# Altium footprint library Bicycle_project.PcbLib: 15 footprints
Each footprint in its own frame and in the unit in brackets; x right, y up, seen from the top. Pads: shape width x height; smd on the part's side, far side on the other; paste and mask are expansions set on the pad; w line width, h text height; cw(c..) or ccw(c..) is an arc to the next point about the centre after c.
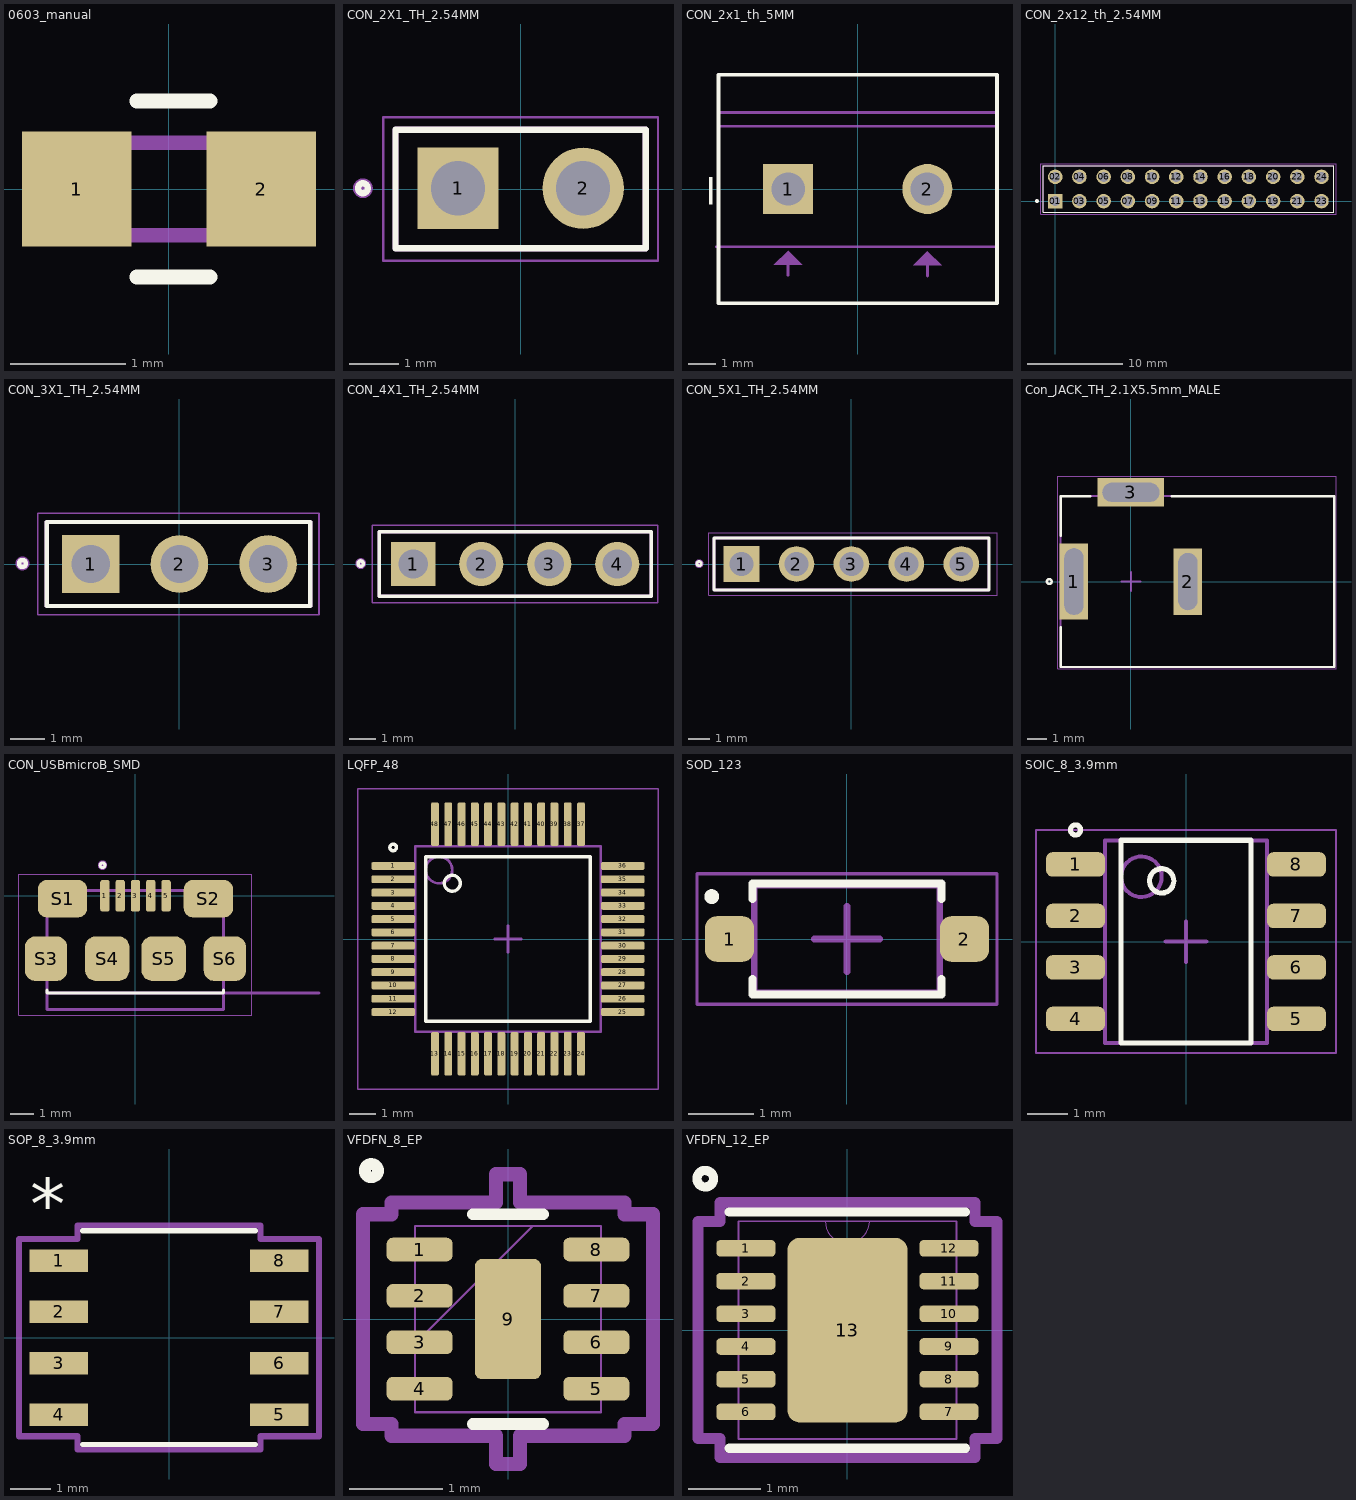
[diagram p0: the footprints below, top view; thin cyan lines are the x and y axes]

## 0603_manual [mm] "1608 (metric) / 20231125 / Gustavo_Pisso"
pads (2):
  rect 0.95x1 smd: 1(-0.8,0) 2(0.8,0)
Top Overlay:
  lines w0.127: -0.279,-0.762 0.356,-0.762 ; -0.279,0.762 -0.121,0.762 0.197,0.762 0.356,0.762
Mechanical 1:
  lines w0.127: -0.851,-0.4 -0.851,0.4 0.749,0.4 0.749,-0.4 -0.851,-0.4
3D body "RC0603N_PAN.step": height 0.71, standoff 0, extent -0.851,-0.4 0.749,0.4

## CON_2X1_TH_2.54MM [mm]
height 8.58
pads (2):
  rect 1.65x1.65 / inner round 1.65 / far side rect 1.65x1.65 hole 1.1: 1(-1.27,0.015)
  round 1.65 hole 1.1: 2(1.27,0.015)
Top Overlay:
  circle w0.127: c-3.2,0.015 r0.1
  lines w0.127: -2.54,-1.205 2.54,-1.205 2.54,1.205 -2.54,1.205 -2.54,-1.205
Mechanical 13:
  circle w0.2: c-3.2,0.015 r0.1
  lines w0.127: -2.54,-1.205 2.54,-1.205 2.54,1.205 -2.54,1.205 -2.54,-1.205
Mechanical 15:
  lines w0.05: -2.79,-1.455 2.79,-1.455 2.79,1.455 -2.79,1.455 -2.79,-1.455
3D body "step_temp.STEP": height 8.18, standoff -3.25, extent -2.54,-1.267 2.54,1.143

## CON_2x1_th_5MM [mm]
height 10
pads (2):
  rect 1.8x1.8 hole 1.2: 1(-2.5,0)
  round 1.8 hole 1.2: 2(2.5,0)
Top Overlay:
  region: -5.336,0.436 -5.336,-0.564 -5.209,-0.564 -5.209,0.436
  lines w0.127: -5,-4.1 -5,4.1 5,4.1 5,-4.1 -5,-4.1
Mechanical 1:
  region: 1.995,-2.742 3.011,-2.742 2.503,-2.234
  region: -3.011,-2.717 -1.995,-2.717 -2.503,-2.209
  lines w0.1: -5.075,-2.075 4.925,-2.075 ; -5,2.25 5,2.25 ; -4.95,2.75 5,2.75 ; -2.503,-3.098 -2.503,-2.717 ; 2.503,-3.123 2.503,-2.742 ; -5,-4.1 -5,4.1 5,4.1 5,-4.1 -5,-4.1
3D body "282836-2.stp": height 10.04, standoff -3.46, extent -5.525,-4.1 5.075,4.1

## CON_2x12_th_2.54MM [mm]
height 10
pads (24):
  rect 1.53x1.53 hole 1.02: 01(0,0)
  round 1.53 hole 1.02: 02(0,2.54) 03(2.54,0) 04(2.54,2.54) 05(5.08,0) 06(5.08,2.54) 07(7.62,0) 08(7.62,2.54) 09(10.16,0) 10(10.16,2.54) 11(12.7,0) 12(12.7,2.54) 13(15.24,0) 14(15.24,2.54) 15(17.78,0) 16(17.78,2.54) 17(20.32,0) 18(20.32,2.54) 19(22.86,0) 20(22.86,2.54) 21(25.4,0) 22(25.4,2.54) 23(27.94,0) 24(27.94,2.54)
Top Overlay:
  circle w0.2: c-1.92,0 r0.1
  lines w0.127: -1.27,-1.145 -1.27,3.685 29.21,3.685 29.21,-1.145 -1.27,-1.145
Mechanical 13:
  circle w0.2: c-1.92,0 r0.1
  lines w0.127: -1.27,-1.145 -1.27,3.685 ; -1.27,-1.145 29.21,-1.145 ; -1.27,-1.145 -1.27,3.685 ; -1.27,3.685 29.21,3.685 ; -1.27,3.685 29.21,3.685 ; 29.21,-1.145 29.21,3.685 ; 29.21,-1.145 29.21,3.685
Mechanical 15:
  lines w0.05: -1.52,-1.395 -1.52,3.935 29.46,3.935 29.46,-1.395 -1.52,-1.395
3D body "step_temp.STEP": height 8.18, standoff -3.25, extent -1.27,-1.145 29.21,3.685

## CON_3X1_TH_2.54MM [mm]
pads (3):
  rect 1.65x1.65 / inner round 1.65 / far side rect 1.65x1.65 hole 1.1: 1(-2.54,0)
  round 1.65 hole 1.1: 2(0,0) 3(2.54,0)
Top Overlay:
  circle w0.127: c-4.5,0.015 r0.1
  lines w0.127: -3.81,-1.205 3.75,-1.205 3.75,1.205 -3.81,1.205 -3.81,-1.205
Mechanical 13:
  circle w0.2: c-4.5,0.015 r0.1
  lines w0.127: -3.81,-1.205 3.75,-1.205 3.75,1.205 -3.81,1.205 -3.81,-1.205
Mechanical 15:
  lines w0.05: -4.06,-1.455 4,-1.455 4,1.455 -4.06,1.455 -4.06,-1.455
3D body "10129378-903001BLF.step": height 8.18, standoff -3.25, extent -3.81,-1.25 3.81,1.16

## CON_4X1_TH_2.54MM [mm]
height 8.58
pads (4):
  rect 1.65x1.65 / inner round 1.65 / far side rect 1.65x1.65 hole 1.1: 1(-3.81,0)
  round 1.65 hole 1.1: 2(-1.27,0) 3(1.27,0) 4(3.81,0)
Top Overlay:
  circle w0.127: c-5.77,0.015 r0.1
  lines w0.127: -5.08,-1.205 5.08,-1.205 5.08,1.205 -5.08,1.205 -5.08,-1.205
Mechanical 13:
  circle w0.2: c-5.77,0.015 r0.1
  lines w0.127: -5.08,-1.205 5.08,-1.205 5.08,1.205 -5.08,1.205 -5.08,-1.205
Mechanical 15:
  lines w0.05: -5.33,-1.455 5.33,-1.455 5.33,1.455 -5.33,1.455 -5.33,-1.455
3D body "step_temp.STEP": height 8.18, standoff -3.25, extent -5.08,-1.205 5.08,1.205

## CON_5X1_TH_2.54MM [mm]
height 8.58
pads (5):
  rect 1.65x1.65 / inner round 1.65 / far side rect 1.65x1.65 hole 1.1: 1(-5.08,0)
  round 1.65 hole 1.1: 2(-2.54,0) 3(0,0) 4(2.54,0) 5(5.08,0)
Top Overlay:
  circle w0.127: c-7.04,0.015 r0.1
  lines w0.127: -6.35,-1.205 -6.35,1.205 6.355,1.205 6.355,-1.205 -6.35,-1.205
Mechanical 13:
  circle w0.2: c-7.04,0.015 r0.1
  lines w0.127: -6.35,-1.205 -6.35,1.205 6.35,1.205 6.35,-1.205 -6.35,-1.205
Mechanical 15:
  lines w0.05: -6.6,-1.455 -6.6,1.455 6.73,1.455 6.73,-1.455 -6.6,-1.455
3D body "10129378-905001BLF.STEP": height 8.18, standoff -3.25, extent -6.35,-1.205 6.35,1.205

## Con_JACK_TH_2.1X5.5mm_MALE [mm] "20231203 / GustavoPisso"
height 11
pads (3):
  rect 1.5x4 hole 1 slot 3.5 at 90 deg: 1(-3,0)
  rect 1.5x3.5 hole 1 slot 3 at 90 deg: 2(3,0)
  rect 3.5x1.5 hole 1 slot 3 at 0 deg: 3(0,4.7)
Top Overlay:
  circle w0.127: c-4.3,0 r0.125
  lines w0.127: -3.7,-2.4 -3.7,-4.5 10.7,-4.5 10.7,4.5 2.15,4.5 ; -3.7,2.4 -3.7,4.5 -2.15,4.5
Mechanical 1:
  lines w0.1: -3.7,-4.5 -3.7,4.5 10.7,4.5 10.7,-4.5 -3.7,-4.5
Mechanical 15:
  lines w0.05: -3.85,-4.6 -3.85,5.55 10.8,5.55 10.8,-4.6 -3.85,-4.6
  lines w0.1: -0.5,0 0.5,0 ; 0,-0.5 0,0.5
3D body "pj-002a.stp": height 11, standoff -3.5, extent -3.7,-4.5 10.7,4.9

## CON_USBmicroB_SMD [mm] "20231212 / GustavoPisso"
height 2.8
pads (11):
  rrect50% 0.4x1.35 smd: 1(-1.3,0) 2(-0.65,0) 3(0,0) 4(0.65,0) 5(1.3,0)
  rrect50% 2.1x1.6 smd: S1(-3.1,-0.125) S2(3.1,-0.125)
  rrect50% 1.8x1.9 smd: S3(-3.8,-2.675) S6(3.8,-2.675)
  rrect50% 1.9x1.9 smd: S4(-1.2,-2.675) S5(1.2,-2.675)
Top Overlay:
  circle w0.127: c-1.4,1.3 r0.1
  lines w0.127: -3.75,-4 -3.75,-4.125 3.75,-4.125 3.75,-4
Mechanical 1:
  circle w0.2: c-1.4,1.3 r0.1
  lines w0.127: 7.8,-4.125 3.75,-4.125 ; -3.75,-4.125 3.75,-4.125 ; -3.75,-4.125 -3.75,0.225 3.75,0.225 3.75,-4.125 ; -3.75,-4.125 -3.75,-4.825 3.75,-4.825 3.75,-4.125
  text "PCB Edge" at 5.1,-3.8 h0.41
Mechanical 15:
  lines w0.05: -4.95,-5.075 -4.95,0.925 4.95,0.925 4.95,-5.075 -4.95,-5.075
3D body "step_temp.STEP": height 2.7, standoff 0, extent -3.95,-4.825 3.95,0.275

## LQFP_48 [mm] "LQFP_48 (7x7) / 20231215 / GustavoPisso"
height 1.6
pads (48):
  rrect50% 1.65x0.3 smd: 1(-4.325,2.75) 2(-4.325,2.25) 3(-4.325,1.75) 4(-4.325,1.25) 5(-4.325,0.75) 6(-4.325,0.25) 7(-4.325,-0.25) 8(-4.325,-0.75) 9(-4.325,-1.25) 10(-4.325,-1.75) 11(-4.325,-2.25) 12(-4.325,-2.75) 25(4.325,-2.75) 26(4.325,-2.25) 27(4.325,-1.75) 28(4.325,-1.25) 29(4.325,-0.75) 30(4.325,-0.25) 31(4.325,0.25) 32(4.325,0.75) 33(4.325,1.25) 34(4.325,1.75) 35(4.325,2.25) 36(4.325,2.75)
  rrect50% 0.3x1.65 smd: 13(-2.75,-4.325) 14(-2.25,-4.325) 15(-1.75,-4.325) 16(-1.25,-4.325) 17(-0.75,-4.325) 18(-0.25,-4.325) 19(0.25,-4.325) 20(0.75,-4.325) 21(1.25,-4.325) 22(1.75,-4.325) 23(2.25,-4.325) 24(2.75,-4.325) 37(2.75,4.325) 38(2.25,4.325) 39(1.75,4.325) 40(1.25,4.325) 41(0.75,4.325) 42(0.25,4.325) 43(-0.25,4.325) 44(-0.75,4.325) 45(-1.25,4.325) 46(-1.75,4.325) 47(-2.25,4.325) 48(-2.75,4.325)
Top Overlay:
  circle w0.127: c-4.325,3.45 r0.125
  circle w0.127: c-2.1,2.1 r0.3
  lines w0.127: -3.1,-3.1 -3.1,3.1 3.1,3.1 3.1,-3.1 -3.1,-3.1
Mechanical 1:
  circle w0.1: c-2.6,2.6 r0.5
  lines w0.1: -3.5,-3.5 -3.5,3.5 3.5,3.5 3.5,-3.5 -3.5,-3.5
Mechanical 15:
  lines w0.05: -5.65,-5.65 -5.65,5.65 5.65,5.65 5.65,-5.65 -5.65,-5.65
  lines w0.1: -0.5,0 0.5,0 ; 0,-0.5 0,0.5
3D body: height 1.6, standoff 0.05, extent -3.5,-3.5 3.5,3.5

## SOD_123 [mm] "SOD-123 / 20231125 / GustavoPisso"
height 1.35
pads (2):
  rrect50% 0.75x0.7 smd: 1(-1.8,0) 2(1.8,0)
Top Overlay:
  circle w0.127: c-2.075,0.65 r0.05
  lines w0.127: -1.45,-0.613 -1.45,-0.85 1.45,-0.85 1.45,-0.613 ; -1.45,0.613 -1.45,0.85 1.45,0.85 1.45,0.613
Mechanical 1:
  lines w0.1: -1.425,-0.825 1.425,-0.825 1.425,0.825 -1.425,0.825 -1.425,-0.825
Mechanical 15:
  lines w0.05: -2.3,-1 2.3,-1 2.3,1 -2.3,1 -2.3,-1
  lines w0.1: -0.5,0 0.5,0 ; 0,-0.5 0,0.5
3D body "SODFL370X135-2N.step": height 1.35, standoff 0, extent -1.85,-0.825 1.85,0.825

## SOIC_8_3.9mm [mm] "SOIC-8 / 20231125 / GustavoPisso"
height 1.75
pads (8):
  rrect50% 1.45x0.6 smd: 1(-2.725,1.905) 2(-2.725,0.635) 3(-2.725,-0.635) 4(-2.725,-1.905) 5(2.725,-1.905) 6(2.725,-0.635) 7(2.725,0.635) 8(2.725,1.905)
Top Overlay:
  circle w0.127: c-2.725,2.755 r0.125
  circle w0.127: c-0.6,1.5 r0.3
  lines w0.127: -1.6,-2.5 -1.6,2.5 1.6,2.5 1.6,-2.5 -1.6,-2.5
Mechanical 1:
  circle w0.1: c-1.1,1.6 r0.5
  lines w0.1: -2,-2.5 -2,2.5 2,2.5 2,-2.5 -2,-2.5
Mechanical 15:
  lines w0.05: -3.7,-2.75 -3.7,2.75 3.7,2.75 3.7,-2.75 -3.7,-2.75
  lines w0.1: -0.5,0 0.5,0 ; 0,-0.5 0,0.5
3D body "SOIC-8akaD0008AakaM08A.stp": height 1.63, standoff 0, extent -3,-2.45 3,2.45

## SOP_8_3.9mm [mil] "8-SOIC (0.154\", 3.90mm Width)"
pads (8):
  rect 57x22 smd paste+0 mask+0: 1(-107.5,75) 2(-107.5,25) 3(-107.5,-25) 4(-107.5,-75) 5(107.5,-75) 6(107.5,-25) 7(107.5,25) 8(107.5,75)
Top Overlay:
  lines w5: -84,-104 84,-104 ; -84,104 84,104
  text "*" at -135,105 h50
Mechanical 15:
  lines w6: -146,-96 -146,96 -89,96 -89,109 89,109 89,96 146,96 146,-96 89,-96 89,-109 -89,-109 -89,-96 -146,-96
3D body "8-SOP_MX25V_M1_MAC.step": height 69.09, standoff 0, extent -122.01,-99.02 122.01,99.02

## VFDFN_8_EP [mil] "MLF8 (2X2) / 20231203 / GustavoPisso"
pads (9):
  rrect50% 28x10 smd: 1(-37.5,29.53) 2(-37.5,9.84) 3(-37.5,-9.84) 4(-37.5,-29.53) 5(37.5,-29.53) 6(37.5,-9.84) 7(37.5,9.84) 8(37.5,29.53)
  rrect20% 28x51 smd: 9(0,0)
Top Overlay:
  circle w5: c-58,63 r2.83
  lines w5: -15.01,-44.5 15.01,-44.5 ; -15.01,44.5 15.01,44.5
Mechanical 1:
  lines w1: -39.5,-10.5 10.5,39.5 ; -39.5,-39.5 39.5,-39.5 39.5,39.5 -39.5,39.5 -39.5,-39.5 ; -39.5,-35.53 -39.5,-23.53 -39.5,-35.53 ; -39.5,-15.84 -39.5,-3.84 -39.5,-15.84 ; -39.5,3.84 -39.5,15.84 -39.5,3.84 ; -39.5,23.53 -39.5,35.53 -39.5,23.53 ; 39.5,-35.53 39.5,-23.53 39.5,-35.53 ; 39.5,-15.84 39.5,-3.84 39.5,-15.84 ; 39.5,3.84 39.5,15.84 39.5,3.84 ; 39.5,23.53 39.5,35.53 39.5,23.53
Mechanical 15:
  lines w6: -61.5,-44.53 -49.5,-44.53 -49.5,-49.5 -5.16,-49.5 -5.16,-61.5 5.16,-61.5 5.16,-49.5 49.5,-49.5 49.5,-44.53 61.5,-44.53 61.5,44.53 49.5,44.53 49.5,49.5 5.16,49.5 5.16,61.5 -5.16,61.5 -5.16,49.5 -49.5,49.5 -49.5,44.53 -61.5,44.53 -61.5,-44.53
3D body "MLF-8_ML_MCH.step": height 35.12, standoff 0, extent -39.49,-39.49 39.49,39.49

## VFDFN_12_EP [mil] "DFN_12_(3X3) / 20231212 / GustavoPisso"
pads (13):
  rrect50% 32x9 smd paste+0 mask+0: 1(-55,44.29) 2(-55,26.57) 3(-55,8.86) 4(-55,-8.86) 5(-55,-26.57) 6(-55,-44.29) 7(55,-44.29) 8(55,-26.57) 9(55,-8.86) 10(55,8.86) 11(55,26.57) 12(55,44.29)
  rrect20% 65x100 smd paste+0 mask+0: 13(0,0)
Top Overlay:
  circle w5: c-77,82 r4.47
  lines w5: -64,-64 64,-64 ; -64,64 64,64
Mechanical 1:
  lines w0: -12,59 ccw(c0,59) 12,59
  lines w1: -59,-59 -59,59 59,59 59,-59 -59,-59
Mechanical 15:
  lines w6: -81,-58.79 -69,-58.79 -69,-69 69,-69 69,-58.79 81,-58.79 81,58.79 69,58.79 69,69 -69,69 -69,58.79 -81,58.79 -81,-58.79
3D body "DFN-12_FTD.step": height 32.09, standoff 0, extent -59.02,-59.02 59.02,59.02